# Altium footprint library PcbLibrary.PcbLib: 4 footprints
Each footprint in its own frame and in the unit in brackets; x right, y up, seen from the top. Pads: shape width x height; smd on the part's side, far side on the other; paste and mask are expansions set on the pad; w line width, h text height; cw(c..) or ccw(c..) is an arc to the next point about the centre after c.
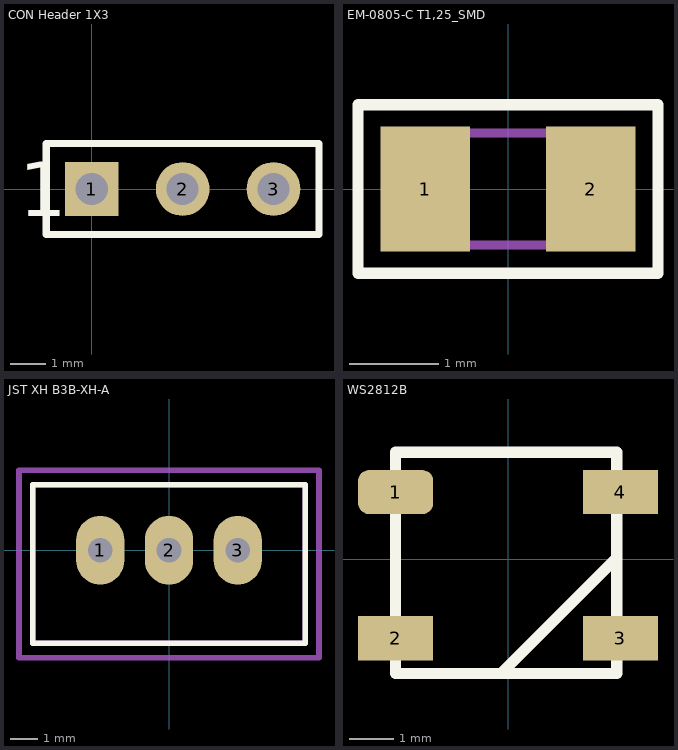
[diagram p0: the footprints below, top view; thin cyan lines are the x and y axes]

## CON Header 1X3 [mm] "Header - MC"
pads (3):
  rect 1.5x1.5 hole 0.9: 1(0,0)
  round 1.5 hole 0.9: 2(2.54,0) 3(5.08,0)
Top Overlay:
  lines w0.2: -1.27,-1.27 6.35,-1.27 6.35,1.27 -1.27,1.27 -1.27,-1.27
  text "1" at -2.032,-0.762 h1.52
3D body "JST B3B-XH-A.STEP": height 7, standoff -3.4, extent -2.45,-3.375 7.45,2.375

## EM-0805-C T1,25_SMD [mm] "Chip Capacitor, 2-Leads, Body 2,00x1,25mm, IPC Medium Density"
height 1.25
pads (2):
  rect 1x1.4 smd: 1(-0.925,0) 2(0.925,0)
Top Overlay:
  lines w0.127: -1.676,-0.94 1.676,-0.94 1.676,0.94 -1.651,0.94 -1.676,0.94 -1.676,-0.94
Mechanical 13:
  lines w0.1: -1,-0.625 -1,0.625 1,0.625 1,-0.625 -1,-0.625
3D body "EM-0805-C T1,25.step": height 1.25, standoff 0, extent -1,-0.625 1,0.625

## JST XH B3B-XH-A [mm]
height 7
pads (3):
  oval 1.75x2.5 hole 0.9: 1(-2.5,0) 2(0,0) 3(2.5,0)
Top Overlay:
  lines w0.2: -4.95,-3.375 -4.95,2.375 4.95,2.375 4.95,-3.375 -4.95,-3.375
Mechanical 1:
  lines w0.2: -4.95,-3.375 4.95,-3.375 4.95,2.375 -4.95,2.375 -4.95,-3.375
Mechanical 15:
  lines w0.2: -0.5,0 0.5,0 ; 0,-0.5 0,0.5 ; -5.45,-3.9 -5.45,2.9 5.45,2.9 5.45,-3.9 -5.45,-3.9
3D body "JST B3B-XH-A.STEP": height 7, standoff -3.4, extent -4.95,-3.375 4.95,2.375

## WS2812B [mm]
pads (4):
  rrect50% 1.7x1 smd: 1(-2.54,1.524)
  rect 1.7x1 smd: 2(-2.54,-1.778) 3(2.54,-1.778) 4(2.54,1.524)
Top Overlay:
  lines w0.254: -0.098,-2.518 2.44,0.019 ; -2.54,-2.576 -2.54,2.424 2.46,2.424 2.46,-2.576 -2.54,-2.576
3D body "WS2812_RGB_LED_updated.stp": height 1.5, standoff -0.2, extent -2.675,-2.602 2.675,2.348